# Altium footprint library trafo-siemens.PCBLIB: 39 footprints (part 2 of 3)
Each footprint in its own frame and in the unit in brackets; x right, y up, seen from the top. Pads: shape width x height; smd on the part's side, far side on the other; paste and mask are expansions set on the pad; w line width, h text height; cw(c..) or ccw(c..) is an arc to the next point about the centre after c.
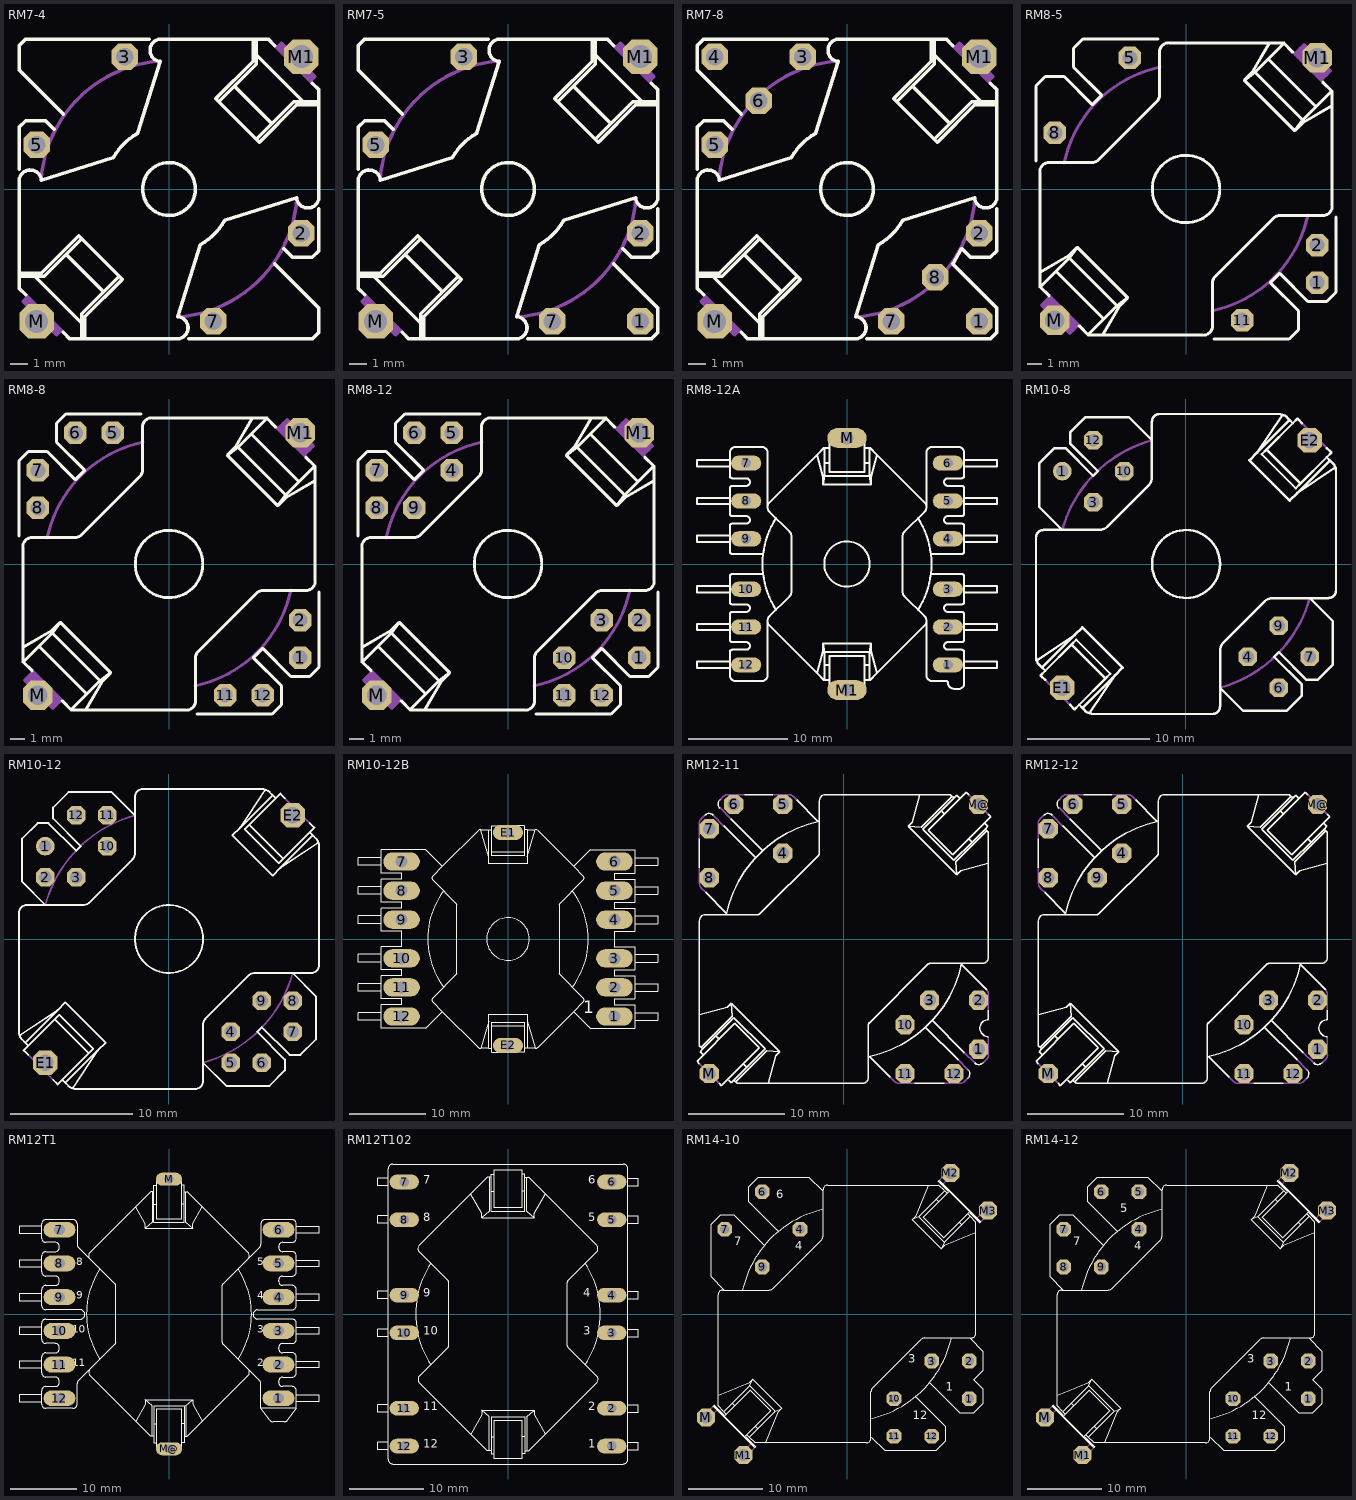
[diagram p1: the footprints below, top view; thin cyan lines are the x and y axes]

## RM7-4 [mil]
pads (6):
  oct 60x60 hole 40: 2(300,-100) 3(-100,300) 5(-300,100) 7(100,-300)
  oct 78x78 hole 52: M(-300,-300) M1(300,300)
Top Overlay:
  circle w8: c0,0 r60
  lines w8: -340,20 -340,-225 -325,-240 ; -340,20.24 cw(c-314.65,17.67) -289.28,20.05 -127.28,70.71 ; -340,45 -340,140 -325,155 -280,155 -260,135 ; -339.41,-197.99 -282.84,-197.99 -197.99,-113.14 ; -339.41,-190.92 -289.91,-190.92 -205.06,-106.07 -197.99,-113.14 ; -304.06,-197.99 -197.99,-304.06 ; -240,-325 -225,-340 20,-340 ; -240,170 -340,270 -340,325 -325,340 -45,340 ; -233.35,-148.49 -148.49,-233.35 ; -197.99,-339.41 -197.99,-282.84 -113.14,-197.99 ; -190.92,-339.41 -190.92,-289.91 -106.07,-205.06 -113.14,-197.99 ; -126.44,70.97 cw(c0,0) -70.97,126.44 ; -70.71,127.28 -20.05,289.31 cw(c-17.67,314.65) -20.24,340 ; -19.2,340 225,340 240,325 ; 20.24,-339.98 ccw(c17.67,-314.65) 20.05,-289.3 70.97,-126.44 ccw(c0,0) 126.44,-70.97 289.31,-20.05 ccw(c314.64,-17.67) 339.96,-20.24 ; 45,-340 325,-340 340,-325 340,-270 240,-170 ; 148.49,233.35 233.35,148.49 ; 190.92,339.41 190.92,289.91 106.07,205.06 113.14,197.99 ; 197.99,304.06 304.06,197.99 ; 197.99,339.41 197.99,282.84 113.14,197.99 ; 260,-135 280,-155 325,-155 340,-140 340,-45 ; 325,240 340,225 ; 339.41,190.92 289.91,190.92 205.06,106.07 197.99,113.14 ; 339.41,197.99 282.84,197.99 197.99,113.14 ; 340,-20 340,224.5 ; -197.99,-113.14 -113.14,-197.99 ; 113.14,197.99 197.99,113.14
Mechanical 16:
  lines w8: -324,-240.69 -240.69,-324 ; -320,-255 -255,-320 ; -320,-245 -330,-255 -255,-330 -245,-320 ; -290,20 cw(c0,0) -20,290 ; 20,-290 ccw(c0,0) 290,-20 ; 240,325 325,240 ; 245,320 255,330 330,255 320,245 ; 255,320 320,255

## RM7-5 [mil]
pads (7):
  oct 60x60 hole 40: 1(300,-300) 2(300,-100) 3(-100,300) 5(-300,100) 7(100,-300)
  oct 78x78 hole 52: M(-300,-300) M1(300,300)
Top Overlay:
  circle w8: c0,0 r60
  lines w8: -340,20 -340,-225 -325,-240 ; -340,20.24 cw(c-314.65,17.67) -289.28,20.05 -127.28,70.71 ; -340,45 -340,140 -325,155 -280,155 -260,135 ; -339.41,-197.99 -282.84,-197.99 -197.99,-113.14 ; -339.41,-190.92 -289.91,-190.92 -205.06,-106.07 -197.99,-113.14 ; -304.06,-197.99 -197.99,-304.06 ; -240,-325 -225,-340 20,-340 ; -240,170 -340,270 -340,325 -325,340 -45,340 ; -233.35,-148.49 -148.49,-233.35 ; -197.99,-339.41 -197.99,-282.84 -113.14,-197.99 ; -190.92,-339.41 -190.92,-289.91 -106.07,-205.06 -113.14,-197.99 ; -126.44,70.97 cw(c0,0) -70.97,126.44 ; -70.71,127.28 -20.05,289.31 cw(c-17.67,314.65) -20.24,340 ; -19.2,340 225,340 240,325 ; 20.24,-339.98 ccw(c17.67,-314.65) 20.05,-289.3 70.97,-126.44 ccw(c0,0) 126.44,-70.97 289.31,-20.05 ccw(c314.64,-17.67) 339.96,-20.24 ; 45,-340 325,-340 340,-325 340,-270 240,-170 ; 148.49,233.35 233.35,148.49 ; 190.92,339.41 190.92,289.91 106.07,205.06 113.14,197.99 ; 197.99,304.06 304.06,197.99 ; 197.99,339.41 197.99,282.84 113.14,197.99 ; 260,-135 280,-155 325,-155 340,-140 340,-45 ; 325,240 340,225 ; 339.41,190.92 289.91,190.92 205.06,106.07 197.99,113.14 ; 339.41,197.99 282.84,197.99 197.99,113.14 ; 340,-20 340,224.5 ; -197.99,-113.14 -113.14,-197.99 ; 113.14,197.99 197.99,113.14
Mechanical 16:
  lines w8: -324,-240.69 -240.69,-324 ; -320,-255 -255,-320 ; -320,-245 -330,-255 -255,-330 -245,-320 ; -290,20 cw(c0,0) -20,290 ; 20,-290 ccw(c0,0) 290,-20 ; 240,325 325,240 ; 245,320 255,330 330,255 320,245 ; 255,320 320,255

## RM7-8 [mil]
pads (10):
  oct 60x60 hole 40: 1(300,-300) 2(300,-100) 3(-100,300) 4(-300,300) 5(-300,100) 6(-200,200) 7(100,-300) 8(200,-200)
  oct 78x78 hole 52: M(-300,-300) M1(300,300)
Top Overlay:
  circle w8: c0,0 r60
  lines w8: -340,20 -340,-225 -325,-240 ; -340,20.24 cw(c-314.65,17.67) -289.28,20.05 -127.28,70.71 ; -340,45 -340,140 -325,155 -280,155 -260,135 ; -339.41,-197.99 -282.84,-197.99 -197.99,-113.14 ; -339.41,-190.92 -289.91,-190.92 -205.06,-106.07 -197.99,-113.14 ; -304.06,-197.99 -197.99,-304.06 ; -240,-325 -225,-340 20,-340 ; -240,170 -340,270 -340,325 -325,340 -45,340 ; -233.35,-148.49 -148.49,-233.35 ; -197.99,-339.41 -197.99,-282.84 -113.14,-197.99 ; -190.92,-339.41 -190.92,-289.91 -106.07,-205.06 -113.14,-197.99 ; -126.44,70.97 cw(c0,0) -70.97,126.44 ; -70.71,127.28 -20.05,289.31 cw(c-17.67,314.65) -20.24,340 ; -19.2,340 225,340 240,325 ; 20.24,-339.98 ccw(c17.67,-314.65) 20.05,-289.3 70.97,-126.44 ccw(c0,0) 126.44,-70.97 289.31,-20.05 ccw(c314.64,-17.67) 339.96,-20.24 ; 45,-340 325,-340 340,-325 340,-270 240,-170 260,-135 280,-155 325,-155 340,-140 340,-45 ; 148.49,233.35 233.35,148.49 ; 190.92,339.41 190.92,289.91 106.07,205.06 113.14,197.99 ; 197.99,304.06 304.06,197.99 ; 197.99,339.41 197.99,282.84 113.14,197.99 ; 325,240 340,225 ; 339.41,190.92 289.91,190.92 205.06,106.07 197.99,113.14 ; 339.41,197.99 282.84,197.99 197.99,113.14 ; 340,-20 340,224.5 ; -197.99,-113.14 -113.14,-197.99 ; 113.14,197.99 197.99,113.14
Mechanical 16:
  lines w8: -324,-240.69 -240.69,-324 ; -320,-255 -255,-320 ; -320,-245 -330,-255 -255,-330 -245,-320 ; -290,20 cw(c0,0) -20,290 ; 20,-290 ccw(c0,0) 290,-20 ; 240,325 325,240 ; 245,320 255,330 330,255 320,245 ; 255,320 320,255

## RM8-5 [mil]
pads (7):
  oct 60x60 hole 40: 1(350,-250) 2(350,-150) 5(-150,350) 8(-350,150) 11(150,-350)
  oct 78x78 hole 52: M(-350,-350) M1(350,350)
Top Overlay:
  circle w8: c0,0 r90
  lines w8: -400,75 -400,275 -375,300 -325,300 -250,225 -225,250 -300,325 -300,375 -275,400 -75,400 ; -365,-285 -390,-260 ; -346.48,-219.2 -219.2,-346.48 ; -285,-365 -260,-390 ; -261.63,-388.91 -219.2,-346.48 ; -260.54,-390 -260,-390 ; -233.09,78.02 cw(c-250.75,95.7) -250.77,70.71 -365,70.71 ccw(c-365,45.71) -390,45.71 -390,-222.64 ; -233.09,78.03 -78.03,233.09 ccw(c-95.71,250.77) -70.71,250.77 -70.71,365 cw(c-45.71,365) -45.71,390 222.64,390 ; 75,-400 275,-400 300,-375 300,-325 225,-250 250,-225 325,-300 375,-300 400,-275 400,-75 ; 219.2,346.48 346.48,219.2 ; 285,365 260,390 ; 365,285 390,260 ; 388.91,261.63 346.48,219.2 ; 390,260.54 390,260 ; -390,-260 -390,-260.54 -388.91,-261.63 -311.13,-183.85 ; -390,-260 -390,-222.64 ; -390,-222.64 -311.13,-176.78 -289.91,-155.56 ; -311.13,-183.85 -289.91,-155.56 ; -311.13,-183.85 -183.85,-311.13 ; -289.91,-155.56 -155.56,-289.91 ; -260,-390 -222.64,-390 ; -222.64,-390 45.71,-390 ccw(c45.71,-365) 70.71,-365 70.71,-250.77 cw(c95.71,-250.77) 78.03,-233.09 233.09,-78.03 cw(c250.75,-95.72) 250.77,-70.72 365,-70.71 ccw(c365,-45.71) 390,-45.71 390,222.64 ; -222.64,-390 -176.78,-311.13 -155.56,-289.91 ; -219.2,-346.48 -183.85,-311.13 ; -183.85,-311.13 -155.56,-289.91 ; 155.56,289.91 289.91,155.56 ; 155.56,289.91 183.85,311.13 ; 155.56,289.91 176.78,311.13 222.64,390 ; 183.85,311.13 311.13,183.85 ; 183.85,311.13 261.63,388.91 260.54,390 260,390 ; 222.64,390 260,390 ; 289.91,155.56 311.13,183.85 ; 289.91,155.56 311.13,176.78 390,222.64 ; 311.13,183.85 346.48,219.2 ; 390,222.64 390,260
Mechanical 16:
  lines w8: -365,-285 -285,-365 ; -363,-288 -289,-362 ; -325,70 cw(c0,0) -70,325 ; -310,-380 -380,-310 -375,-305 -305,-375 -300,-370 -370,-300 -365,-295 -295,-365 ; 70,-325 ccw(c0,0) 325,-70 ; 285,365 290,360 ; 295,360 360,295 ; 300,365 365,300 ; 305,370 370,305 ; 310,375 375,310 ; 315,380 380,315 ; 365,285 360,290 ; -380,-305 -385,-310 -310,-385 ; -380,-305 -375,-300 ; -380,-305 -305,-380 ; -375,-300 -370,-295 ; -375,-300 -300,-375 ; -370,-295 -365,-290 -290,-365 ; -370,-295 -295,-370 ; -310,-385 -305,-380 ; -310,-385 -290,-365 ; -305,-380 -300,-375 ; -300,-375 -295,-370 ; -295,-370 -290,-365 ; 290,360 360,290 ; 290,360 295,365 ; 295,365 300,370 ; 295,365 365,295 ; 300,370 305,375 ; 300,370 370,300 ; 305,375 310,380 ; 305,375 375,305 ; 310,380 315,385 385,315 380,310 ; 310,380 380,310 ; 360,290 365,295 ; 365,295 370,300 ; 370,300 375,305 ; 375,305 380,310

## RM8-8 [mil]
pads (10):
  oct 60x60 hole 40: 1(350,-250) 2(350,-150) 5(-150,350) 6(-250,350) 7(-350,250) 8(-350,150) 11(150,-350) 12(250,-350)
  oct 78x78 hole 52: M(-350,-350) M1(350,350)
Top Overlay:
  circle w8: c0,0 r90
  lines w8: -400,75 -400,275 -375,300 -325,300 -250,225 -225,250 -300,325 -300,375 -275,400 -75,400 ; -365,-285 -390,-260 ; -346.48,-219.2 -219.2,-346.48 ; -285,-365 -260,-390 ; -261.63,-388.91 -219.2,-346.48 ; -260.54,-390 -260,-390 ; -233.09,78.02 cw(c-250.75,95.7) -250.77,70.71 -365,70.71 ccw(c-365,45.71) -390,45.71 -390,-222.64 ; -233.09,78.03 -78.03,233.09 ccw(c-95.71,250.77) -70.71,250.77 -70.71,365 cw(c-45.71,365) -45.71,390 222.64,390 ; 75,-400 275,-400 300,-375 300,-325 225,-250 250,-225 325,-300 375,-300 400,-275 400,-75 ; 219.2,346.48 346.48,219.2 ; 285,365 260,390 ; 365,285 390,260 ; 388.91,261.63 346.48,219.2 ; 390,260.54 390,260 ; -390,-260 -390,-260.54 -388.91,-261.63 -311.13,-183.85 ; -390,-260 -390,-222.64 ; -390,-222.64 -311.13,-176.78 -289.91,-155.56 ; -311.13,-183.85 -289.91,-155.56 ; -311.13,-183.85 -183.85,-311.13 ; -289.91,-155.56 -155.56,-289.91 ; -260,-390 -222.64,-390 ; -222.64,-390 45.71,-390 ccw(c45.71,-365) 70.71,-365 70.71,-250.77 cw(c95.71,-250.77) 78.03,-233.09 233.09,-78.03 cw(c250.75,-95.72) 250.77,-70.72 365,-70.71 ccw(c365,-45.71) 390,-45.71 390,222.64 ; -222.64,-390 -176.78,-311.13 -155.56,-289.91 ; -219.2,-346.48 -183.85,-311.13 ; -183.85,-311.13 -155.56,-289.91 ; 155.56,289.91 289.91,155.56 ; 155.56,289.91 183.85,311.13 ; 155.56,289.91 176.78,311.13 222.64,390 ; 183.85,311.13 311.13,183.85 ; 183.85,311.13 261.63,388.91 260.54,390 260,390 ; 222.64,390 260,390 ; 289.91,155.56 311.13,183.85 ; 289.91,155.56 311.13,176.78 390,222.64 ; 311.13,183.85 346.48,219.2 ; 390,222.64 390,260
Mechanical 16:
  lines w8: -365,-285 -285,-365 ; -363,-288 -289,-362 ; -325,70 cw(c0,0) -70,325 ; -310,-380 -380,-310 -375,-305 -305,-375 -300,-370 -370,-300 -365,-295 -295,-365 ; 70,-325 ccw(c0,0) 325,-70 ; 285,365 290,360 ; 295,360 360,295 ; 300,365 365,300 ; 305,370 370,305 ; 310,375 375,310 ; 315,380 380,315 ; 365,285 360,290 ; -380,-305 -385,-310 -310,-385 ; -380,-305 -375,-300 ; -380,-305 -305,-380 ; -375,-300 -370,-295 ; -375,-300 -300,-375 ; -370,-295 -365,-290 -290,-365 ; -370,-295 -295,-370 ; -310,-385 -305,-380 ; -310,-385 -290,-365 ; -305,-380 -300,-375 ; -300,-375 -295,-370 ; -295,-370 -290,-365 ; 290,360 360,290 ; 290,360 295,365 ; 295,365 300,370 ; 295,365 365,295 ; 300,370 305,375 ; 300,370 370,300 ; 305,375 310,380 ; 305,375 375,305 ; 310,380 315,385 385,315 380,310 ; 310,380 380,310 ; 360,290 365,295 ; 365,295 370,300 ; 370,300 375,305 ; 375,305 380,310

## RM8-12 [mil]
pads (14):
  oct 60x60 hole 40: 1(350,-250) 2(350,-150) 3(250,-150) 4(-150,250) 5(-150,350) 6(-250,350) 7(-350,250) 8(-350,150) 9(-250,150) 10(150,-250) 11(150,-350) 12(250,-350)
  oct 78x78 hole 52: M(-350,-350) M1(350,350)
Top Overlay:
  circle w8: c0,0 r90
  lines w8: -400,75 -400,275 -375,300 -325,300 -250,225 -225,250 -300,325 -300,375 -275,400 -75,400 ; -365,-285 -390,-260 ; -346.48,-219.2 -219.2,-346.48 ; -285,-365 -260,-390 ; -261.63,-388.91 -219.2,-346.48 ; -260.54,-390 -260,-390 ; -233.09,78.02 cw(c-250.75,95.7) -250.77,70.71 -365,70.71 ccw(c-365,45.71) -390,45.71 -390,-222.64 ; -233.09,78.03 -78.03,233.09 ccw(c-95.71,250.77) -70.71,250.77 -70.71,365 cw(c-45.71,365) -45.71,390 222.64,390 ; 75,-400 275,-400 300,-375 300,-325 225,-250 250,-225 325,-300 375,-300 400,-275 400,-75 ; 219.2,346.48 346.48,219.2 ; 285,365 260,390 ; 365,285 390,260 ; 388.91,261.63 346.48,219.2 ; 390,260.54 390,260 ; -390,-260 -390,-260.54 -388.91,-261.63 -311.13,-183.85 ; -390,-260 -390,-222.64 ; -390,-222.64 -311.13,-176.78 -289.91,-155.56 ; -311.13,-183.85 -289.91,-155.56 ; -311.13,-183.85 -183.85,-311.13 ; -289.91,-155.56 -155.56,-289.91 ; -260,-390 -222.64,-390 ; -222.64,-390 45.71,-390 ccw(c45.71,-365) 70.71,-365 70.71,-250.77 cw(c95.71,-250.77) 78.03,-233.09 233.09,-78.03 cw(c250.75,-95.72) 250.77,-70.72 365,-70.71 ccw(c365,-45.71) 390,-45.71 390,222.64 ; -222.64,-390 -176.78,-311.13 -155.56,-289.91 ; -219.2,-346.48 -183.85,-311.13 ; -183.85,-311.13 -155.56,-289.91 ; 155.56,289.91 289.91,155.56 ; 155.56,289.91 183.85,311.13 ; 155.56,289.91 176.78,311.13 222.64,390 ; 183.85,311.13 311.13,183.85 ; 183.85,311.13 261.63,388.91 260.54,390 260,390 ; 222.64,390 260,390 ; 289.91,155.56 311.13,183.85 ; 289.91,155.56 311.13,176.78 390,222.64 ; 311.13,183.85 346.48,219.2 ; 390,222.64 390,260
Mechanical 16:
  lines w8: -365,-285 -285,-365 ; -363,-288 -289,-362 ; -325,70 cw(c0,0) -70,325 ; -310,-380 -380,-310 -375,-305 -305,-375 -300,-370 -370,-300 -365,-295 -295,-365 ; 70,-325 ccw(c0,0) 325,-70 ; 285,365 290,360 ; 295,360 360,295 ; 300,365 365,300 ; 305,370 370,305 ; 310,375 375,310 ; 315,380 380,315 ; 365,285 360,290 ; -380,-305 -385,-310 -310,-385 ; -380,-305 -375,-300 ; -380,-305 -305,-380 ; -375,-300 -370,-295 ; -375,-300 -300,-375 ; -370,-295 -365,-290 -290,-365 ; -370,-295 -295,-370 ; -310,-385 -305,-380 ; -310,-385 -290,-365 ; -305,-380 -300,-375 ; -300,-375 -295,-370 ; -295,-370 -290,-365 ; 290,360 360,290 ; 290,360 295,365 ; 295,365 300,370 ; 295,365 365,295 ; 300,370 305,375 ; 300,370 370,300 ; 305,375 310,380 ; 305,375 375,305 ; 310,380 315,385 385,315 380,310 ; 310,380 380,310 ; 360,290 365,295 ; 365,295 370,300 ; 370,300 375,305 ; 375,305 380,310

## RM8-12A [mil]
pads (14):
  oval 120x60 hole 40: 1(400,-400) 2(400,-250) 3(400,-100) 4(400,100) 5(400,250) 6(400,400) 7(-400,400) 8(-400,250) 9(-400,100) 10(-400,-100) 11(-400,-250) 12(-400,-400)
  oval 156x78 hole 52: M(0,500) M1(0,-500)
Top Overlay:
  drawing of 194 lines, arcs and shapes, not listed
Mechanical 16:
  lines w8: -60,-500 60,-500 ; -60,500 60,500
  text "1" at 375,-425 h77.5
  text "6" at 375,375 h77.5
  text "12" at -450,-425 h77.5
  text "7" at -425,375 h77.5
  text "2" at 375,-275 h77.5
  text "3" at 375,-125 h77.5
  text "4" at 375,75 h77.5
  text "5" at 375,225 h77.5
  text "8" at -425,225 h77.5
  text "9" at -425,75 h77.5
  text "10" at -450,-125 h77.5
  text "11" at -450,-275 h77.5

## RM10-8 [mil]
pads (10):
  round 60 hole 40: 1(-400,300)
  oct 60x60 hole 40: 3(-300,200) 4(200,-300) 6(300,-400) 7(400,-300) 9(300,-200) 10(-200,300) 12(-300,400)
  oct 78x78 hole 52: E1(-400,-400) E2(400,400)
Top Overlay:
  circle w8: c0,0 r110
  lines w8: -480,-310 -360,-230 ; -475.67,-324.93 cw(c-447,-299.99) -485,-300 -485,85 cw(c-460,85) -460,110 -400,110 ; -475,-325 -465,-335 ; -455,-375 -470,-360 -455,-345 ; -375,-455 -360,-470 -345,-455 ; -325.31,-475.35 ccw(c-300,-447) -300,-485 85,-485 ccw(c85,-460) 110,-460 110,-400 ; -325,-475 -335,-465 ; -310,-480 -230,-360 ; -255,120 -120,255 ; -254.86,119.85 cw(c-280,147) -280,110 -400,110 ; -119.85,254.86 ccw(c-147,280) -110,280 -110,400 ; 119.85,-254.86 ccw(c147,-280) 110,-280 110,-400 ; 120,-255 255,-120 ; 254.86,-119.85 cw(c279.98,-147) 280,-110.01 400,-110 ; 310,480 230,360 ; 325,475 335,465 ; 325.31,475.35 ccw(c300.01,447) 300,485 -85,485 ccw(c-85,460) -110,460 -110,400 ; 375,455 360,470 345,455 ; 455,375 470,360 455,345 ; 475,325 465,335 ; 475.67,324.93 cw(c447,299.98) 485.01,300 485,-85 cw(c460,-85) 460,-110 400,-110 ; 480,310 360,230 ; -465,-335 -360,-230 ; -465,-335 -455,-345 ; -455,-345 -370,-260 ; -400,110 -475,185 -475,325 -425,375 -390,375 -300,285 -285,300 -375,390 -375,425 -325,475 -185,475 -110,400 ; -370,-260 -260,-370 ; -370,-260 -355,-245 -245,-355 -260,-370 ; -360,-230 -335,-205 -205,-335 -230,-360 ; -345,-455 -335,-465 ; -345,-455 -260,-370 ; -335,-465 -230,-360 ; 110,-400 185,-475 325,-475 375,-425 375,-390 285,-300 300,-285 390,-375 425,-375 475,-325 475,-185 400,-110 ; 230,360 335,465 ; 230,360 205,335 335,205 360,230 ; 260,370 370,260 ; 260,370 245,355 355,245 370,260 ; 260,370 345,455 ; 335,465 345,455 ; 360,230 465,335 ; 370,260 455,345 ; 455,345 465,335
Mechanical 16:
  lines w8: -455,-375 -375,-455 ; -400,110 cw(c0,-0.01) -111.85,399.48 ; 111.85,-399.48 ccw(c0,0.01) 400,-110 ; 375,455 455,375

## RM10-12 [mil]
pads (14):
  round 60 hole 40: 1(-400,300)
  oct 60x60 hole 40: 2(-400,200) 3(-300,200) 4(200,-300) 5(200,-400) 6(300,-400) 7(400,-300) 8(400,-200) 9(300,-200) 10(-200,300) 11(-200,400) 12(-300,400)
  oct 78x78 hole 52: E1(-400,-400) E2(400,400)
Top Overlay:
  circle w6: c0,0 r110
  lines w6: -480,-310 -360,-230 ; -475.67,-324.93 cw(c-447,-299.99) -485,-300 -485,85 cw(c-460,85) -460,110 -400,110 ; -475,-325 -465,-335 ; -455,-375 -470,-360 -455,-345 ; -375,-455 -360,-470 -345,-455 ; -325.31,-475.35 ccw(c-300,-447) -300,-485 85,-485 ccw(c85,-460) 110,-460 110,-400 ; -325,-475 -335,-465 ; -310,-480 -230,-360 ; -255,120 -120,255 ; -254.86,119.85 cw(c-280,147) -280,110 -400,110 ; -119.85,254.86 ccw(c-147,280) -110,280 -110,400 ; 119.85,-254.86 ccw(c147,-280) 110,-280 110,-400 ; 120,-255 255,-120 ; 254.86,-119.85 cw(c279.98,-147) 280,-110.01 400,-110 ; 310,480 230,360 ; 325,475 335,465 ; 325.31,475.35 ccw(c300.01,447) 300,485 -85,485 ccw(c-85,460) -110,460 -110,400 ; 375,455 360,470 345,455 ; 455,375 470,360 455,345 ; 475,325 465,335 ; 475.67,324.93 cw(c447,299.98) 485.01,300 485,-85 cw(c460,-85) 460,-110 400,-110 ; 480,310 360,230 ; -465,-335 -360,-230 ; -465,-335 -455,-345 ; -455,-345 -370,-260 ; -400,110 -475,185 -475,325 -425,375 -390,375 -300,285 -285,300 -375,390 -375,425 -325,475 -185,475 -110,400 ; -370,-260 -260,-370 ; -370,-260 -355,-245 -245,-355 -260,-370 ; -360,-230 -335,-205 -205,-335 -230,-360 ; -345,-455 -335,-465 ; -345,-455 -260,-370 ; -335,-465 -230,-360 ; 110,-400 185,-475 325,-475 375,-425 375,-390 285,-300 300,-285 390,-375 425,-375 475,-325 475,-185 400,-110 ; 230,360 335,465 ; 230,360 205,335 335,205 360,230 ; 260,370 370,260 ; 260,370 245,355 355,245 370,260 ; 260,370 345,455 ; 335,465 345,455 ; 360,230 465,335 ; 370,260 455,345 ; 455,345 465,335
Mechanical 16:
  lines w6: -455,-375 -375,-455 ; -400,110 cw(c0,-0.01) -111.85,399.48 ; 111.85,-399.48 ccw(c0,0.01) 400,-110 ; 375,455 455,375

## RM10-12B [mil]
pads (14):
  oval 189x94.5 hole 63: 1(550,-400) 2(550,-250) 3(550,-100) 4(550,100) 5(550,250) 6(550,400) 7(-550,400) 8(-550,250) 9(-550,100) 10(-550,-100) 11(-550,-250) 12(-550,-400)
  oval 156x78 hole 52: E1(0,550) E2(0,-550)
Top Overlay:
  drawing of 179 lines, arcs and shapes, not listed
  text "1" at 390,-405 h108.5
Mechanical 16:
  lines w6: -45,-585 45,-585 ; -45,585 45,585

## RM12-11 [mil]
pads (13):
  oct 78x78 hole 52: 1(550,-450) 2(550,-250) 3(350,-250) 4(-250,350) 5(-250,550) 6(-450,550) 7(-550,450) 8(-550,250) 10(250,-350) 11(250,-550) 12(450,-550) M(-550,-550) M@(550,550)
Top Overlay:
  lines w6: -590,-510 -600,-500 -445,-345 -345,-445 -500,-600 -510,-590 ; -590,-309 -477,-279 -460,-262 ; -590,290 -590,410 ; -583,-442 -456,-315 -460,-262 ; -576,-471 -587,-460 -576,-449 ; -568.51,505.51 cw(c-551,488) -534,506 ; -565,190 -481,106 ; -511,-408 -523,-396 ; -506.51,533.52 cw(c-488,551) -506,569 ; -491,462 -361,332 ; -480,100 cw(c0,0) -100,480 ; -471,-576 -460,-587 -449,-576 ; -462,491 -332,361 ; -442,-583 -315,-456 -262,-460 ; -409,-512 -397,-524 ; -405,590 -290,590 ; -343,103 -103,343 ccw(c-110,350) -100.1,350 ; -342.93,102.93 cw(c-350,110) -350,100 -565,100 ccw(c-565,75) -590,75 -590,-435 -576,-449 ; -309,-590 -279,-477 -262,-460 ; -193,568 -106,481 ; -100,350 -100,565 cw(c-75,565) -75,590 435,590 449,576 ; 100,-480 ccw(c0,0) 480,-100 ; 100,-350 100,-565 cw(c75,-565) 75,-590 -435,-590 -449,-576 ; 100.1,-350 cw(c110,-350) 103,-343 343,-103 ; 106,-481 190,-565 ; 290,-590 410,-590 ; 309,590 279,477 262,460 ; 332,-361 466,-494 ; 342.93,-102.93 cw(c350,-110) 350,-100 565,-100 ccw(c565,-75) 590,-75 590,435 576,449 ; 361,-332 492,-464 ; 409,512 397,524 ; 442,583 315,456 262,460 ; 471,576 460,587 397,524 ; 481,-106 583,-208 ; 506,-569 ccw(c488,-551) 506.51,-533.52 ; 510,590 500,600 345,445 445,345 600,500 590,510 ; 511,408 523,396 ; 534,-506 ccw(c550.99,-488) 568.5,-505.5 ; 576,471 587,460 576,449 ; 583,442 456,315 460,262 ; 590,-399 cw(c590,-364) 590,-329 590,-290 ; 590,309 477,279 460,262 ; -576,-449 -523,-396 ; -523,-396 -449,-322 -322,-449 -397,-524 ; -460,-262 -262,-460 ; -449,-576 -397,-524 ; 262,460 460,262 ; 397,524 322,449 449,322 523,396 ; 523,396 576,449
Mechanical 16:
  lines w6: -590.46,474 cw(c-565,473.99) -583,492 -569,506 ; -590,-510 -510,-590 ; -590,290 -590,226 ccw(c-565,226) -582.68,208.32 ; -590,410 -590,474 ; -583,208 -565,190 ; -534,505 -490,461 ; -506,535 -462,491 ; -506,569 -492,583 ; -491.68,582.68 cw(c-474,565) -474,590 -405,590 ; -290,590 -226,590 ; -225.99,589.74 cw(c-225,565) -208,583 -193,568 ; 190,-565 208,-583 ccw(c225,-565) 225.99,-589.74 ; 226,-590 290,-590 ; 410,-590 474,-590 ccw(c474,-565) 491.68,-582.68 ; 466,-494 506,-534 ; 492,-583 506,-569 ; 492,-464 534,-506 ; 510,590 590,510 ; 565,-190 583,-208 ; 569,-506 583,-492 ccw(c565,-473.99) 590.46,-474 ; 582.68,-208.32 cw(c565,-226) 590,-226 590,-290 ; 590,-474 590,-399
  text "1" at 465,-420 h77.5
  text "2" at 445,-295 h77.5
  text "3" at 335,-190 h77.5
  text "10" at 115,-435 h77.5
  text "11" at 240,-485 h77.5
  text "12" at 335,-515 h77.5
  text "4" at -190,325 h77.5
  text "5" at -200,470 h77.5
  text "6" at -410,465 h77.5
  text "7" at -510,360 h77.5
  text "8" at -490,225 h77.5

## RM12-12 [mil]
pads (14):
  oct 78x78 hole 52: 1(550,-450) 2(550,-250) 3(350,-250) 4(-250,350) 5(-250,550) 6(-450,550) 7(-550,450) 8(-550,250) 9(-350,250) 10(250,-350) 11(250,-550) 12(450,-550) M(-550,-550) M@(550,550)
Top Overlay:
  lines w6: -590,-510 -600,-500 -445,-345 -345,-445 -500,-600 -510,-590 ; -590,-309 -477,-279 -460,-262 ; -590,290 -590,410 ; -583,-442 -456,-315 -460,-262 ; -576,-471 -587,-460 -576,-449 ; -568.51,505.51 cw(c-551,488) -534,506 ; -565,190 -481,106 ; -511,-408 -523,-396 ; -506.51,533.52 cw(c-488,551) -506,569 ; -491,462 -361,332 ; -480,100 cw(c0,0) -100,480 ; -471,-576 -460,-587 -449,-576 ; -462,491 -332,361 ; -442,-583 -315,-456 -262,-460 ; -409,-512 -397,-524 ; -405,590 -290,590 ; -343,103 -103,343 ccw(c-110,350) -100.1,350 ; -342.93,102.93 cw(c-350,110) -350,100 -565,100 ccw(c-565,75) -590,75 -590,-435 -576,-449 ; -309,-590 -279,-477 -262,-460 ; -193,568 -106,481 ; -100,350 -100,565 cw(c-75,565) -75,590 435,590 449,576 ; 100,-480 ccw(c0,0) 480,-100 ; 100,-350 100,-565 cw(c75,-565) 75,-590 -435,-590 -449,-576 ; 100.1,-350 cw(c110,-350) 103,-343 343,-103 ; 106,-481 190,-565 ; 290,-590 410,-590 ; 309,590 279,477 262,460 ; 332,-361 466,-494 ; 342.93,-102.93 cw(c350,-110) 350,-100 565,-100 ccw(c565,-75) 590,-75 590,435 576,449 ; 361,-332 492,-464 ; 409,512 397,524 ; 442,583 315,456 262,460 ; 471,576 460,587 397,524 ; 481,-106 583,-208 ; 506,-569 ccw(c488,-551) 506.51,-533.52 ; 510,590 500,600 345,445 445,345 600,500 590,510 ; 511,408 523,396 ; 534,-506 ccw(c550.99,-488) 568.5,-505.5 ; 576,471 587,460 576,449 ; 583,442 456,315 460,262 ; 590,-399 cw(c590,-364) 590,-329 590,-290 ; 590,309 477,279 460,262 ; -576,-449 -523,-396 ; -523,-396 -449,-322 -322,-449 -397,-524 ; -460,-262 -262,-460 ; -449,-576 -397,-524 ; 262,460 460,262 ; 397,524 322,449 449,322 523,396 ; 523,396 576,449
Mechanical 16:
  lines w6: -590.46,474 cw(c-565,473.99) -583,492 -569,506 ; -590,-510 -510,-590 ; -590,290 -590,226 ccw(c-565,226) -582.68,208.32 ; -590,410 -590,474 ; -583,208 -565,190 ; -534,505 -490,461 ; -506,535 -462,491 ; -506,569 -492,583 ; -491.68,582.68 cw(c-474,565) -474,590 -405,590 ; -290,590 -226,590 ; -225.99,589.74 cw(c-225,565) -208,583 -193,568 ; 190,-565 208,-583 ccw(c225,-565) 225.99,-589.74 ; 226,-590 290,-590 ; 410,-590 474,-590 ccw(c474,-565) 491.68,-582.68 ; 466,-494 506,-534 ; 492,-583 506,-569 ; 492,-464 534,-506 ; 510,590 590,510 ; 565,-190 583,-208 ; 569,-506 583,-492 ccw(c565,-473.99) 590.46,-474 ; 582.68,-208.32 cw(c565,-226) 590,-226 590,-290 ; 590,-474 590,-399
  text "1" at 465,-420 h77.5
  text "2" at 445,-295 h77.5
  text "3" at 335,-190 h77.5
  text "10" at 115,-435 h77.5
  text "11" at 240,-485 h77.5
  text "12" at 335,-515 h77.5
  text "4" at -190,325 h77.5
  text "5" at -200,470 h77.5
  text "6" at -410,465 h77.5
  text "7" at -510,360 h77.5
  text "8" at -490,225 h77.5
  text "9" at -415,125 h77.5

## RM12T1 [mil]
pads (14):
  oval 189x94.5 hole 63: 1(650,-500) 2(650,-300) 3(650,-100) 4(650,100) 5(650,300) 6(650,500) 7(-650,500) 8(-650,300) 9(-650,100) 10(-650,-100) 11(-650,-300) 12(-650,-500)
  oval 156x78 hole 52: M(0,800) M@(0,-800)
Top Overlay:
  drawing of 226 lines, arcs and shapes, not listed
  text "2" at 525,-325 h77.5
  text "3" at 525,-125 h77.5
  text "4" at 525,75 h77.5
  text "5" at 525,275 h77.5
  text "8" at -550,275 h77.5
  text "9" at -550,75 h77.5
  text "10" at -575,-125 h77.5
  text "11" at -575,-325 h77.5
Mechanical 16:
  lines w6: -70,-800 70,-800 ; -70,800 70,800
  text "1" at 575,-525 h77.5
  text "6" at 575,475 h77.5
  text "7" at -600,475 h77.5
  text "12" at -650,-525 h77.5

## RM12T102 [mil]
pads (12):
  oval 156x78 hole 52: 1(550,-700) 2(550,-500) 3(550,-100) 4(550,100) 5(550,500) 6(550,700) 7(-550,700) 8(-550,500) 9(-550,100) 10(-550,-100) 11(-550,-500) 12(-550,-700)
Top Overlay:
  lines w6: -470.51,328.52 cw(c-452,346) -470,364 -109,725 -90,725 ; -470,-364 -109,-725 -90,-725 ; -470,329 -318,177 ; -469.5,-363.5 cw(c-452,-345.99) -470,-329 -318,-177 ccw(c-325,-169) -314.37,-169 ; -410,-268 cw(c0,0) -410,268 ; -318.41,176.53 cw(c-325,169.01) -315,169 -315,-169 ; -198,-636 -140,-535 -140,-510 ; -198,636 -140,535 -140,510 ; -100,-725 -100,-545 -140,-510 ; -100,725 -100,545 -140,510 ; 100,-725 100,-545 140,-510 ; 100,725 100,545 140,510 ; 198,-636 140,-535 140,-510 ; 198,636 140,535 140,510 ; 314.37,169 cw(c325,169) 318,177 471,330 ; 315,169 315,-169 ccw(c325,-169.01) 318.41,-176.53 ; 318,-177 471,-330 ; 410,-268 ccw(c0,0) 410,268 ; 469.51,363.51 cw(c452,346) 470,329 ; 470,364 109,725 90,725 ; 470.51,-328.52 cw(c452,-346) 470,-364 109,-725 90,-725 ; -635,-720 -635,-770 ccw(c-610,-770) -610,-795 610,-795 ccw(c610,-770) 635,-770 635,-720 ; -635,-720 -690,-720 -690,-680 -635,-680 ; -635,-720 -635,-680 ; -635,-680 -635,-520 ; -635,-520 -690,-520 -690,-480 -635,-480 ; -635,-520 -635,-480 ; -635,-480 -635,-120 ; -635,-120 -690,-120 -690,-80 -635,-80 ; -635,-120 -635,-80 ; -635,-80 -635,80 ; -635,80 -690,80 -690,120 -635,120 ; -635,80 -635,120 ; -635,120 -635,480 ; -635,480 -690,480 -690,520 -635,520 ; -635,480 -635,520 ; -635,520 -635,680 ; -635,680 -690,680 -690,720 -635,720 ; -635,680 -635,720 ; -635,720 -635,770 cw(c-610,770) -610,795 610,795 cw(c610,770) 635,770 635,720 ; -140,-510 140,-510 ; -140,510 140,510 ; -90,-725 -90,-650 ; -90,-725 -90,-740 -75,-740 ; -90,-650 -90,-545 90,-545 90,-650 ; -90,-650 -75,-650 ; -90,650 -90,545 90,545 90,650 ; -90,650 -90,740 -75,740 ; -90,650 -75,650 ; -75,-740 -75,-650 ; -75,-740 -75,-765 75,-765 75,-740 ; -75,-650 -75,-565 75,-565 75,-650 ; -75,650 -75,740 ; -75,650 -75,565 75,565 75,650 ; -75,740 -75,765 75,765 75,740 ; 75,-740 75,-650 ; 75,-740 90,-740 90,-725 ; 75,-650 90,-650 ; 75,650 75,740 ; 75,650 90,650 ; 75,740 90,740 90,725 ; 90,-725 90,-650 ; 90,650 90,725 ; 635,-720 690,-720 690,-680 635,-680 ; 635,-720 635,-680 ; 635,-680 635,-520 ; 635,-520 690,-520 690,-480 635,-480 ; 635,-520 635,-480 ; 635,-480 635,-120 ; 635,-120 690,-120 690,-80 635,-80 ; 635,-120 635,-80 ; 635,-80 635,80 ; 635,80 690,80 690,120 635,120 ; 635,80 635,120 ; 635,120 635,480 ; 635,480 690,480 690,520 635,520 ; 635,480 635,520 ; 635,520 635,680 ; 635,680 690,680 690,720 635,720 ; 635,680 635,720
  text "1" at 425,-725 h77.5
  text "2" at 425,-525 h77.5
  text "3" at 400,-125 h77.5
  text "4" at 400,75 h77.5
  text "5" at 425,475 h77.5
  text "6" at 425,675 h77.5
  text "7" at -450,675 h77.5
  text "8" at -450,475 h77.5
  text "9" at -450,75 h77.5
  text "10" at -450,-125 h77.5
  text "11" at -450,-525 h77.5
  text "12" at -450,-725 h77.5

## RM14-10 [mil]
pads (14):
  oct 78x78 hole 52: 1(650,-450) 2(650,-250) 3(450,-250) 4(-250,450) 6(-450,650) 7(-650,450) 9(-450,250) 10(250,-450) 11(250,-650) 12(450,-650)
  oct 94.5x94.5 hole 63: M(-750,-550) M1(-550,-750) M2(550,750) M3(750,550)
Top Overlay:
  lines w6: -705,-490 -490,-705 ; -655,-520 -645,-530 ; -655,130 -725,200 -725,475 -675,525 -600,525 -440,365 ; -610,-475 -600,-485 ; -555.61,127.28 cw(c0,0) -127.28,555.61 ; -530,-645 -520,-655 ; -485,-600 -475,-610 ; -365,440 -525,600 -525,675 -475,725 -200,725 -130,655 ; 127.28,-555.61 ccw(c-0.01,-0.01) 555.6,-127.28 ; 130,-655 200,-725 475,-725 525,-675 525,-600 365,-440 ; 440,-365 600,-525 675,-525 725,-475 725,-400 675,-350 725,-300 725,-200 655,-130 ; 475,610 485,600 ; 490,705 705,490 ; 520,655 530,645 ; 600,485 610,475 ; 645,530 655,520 ; -685,-433.86 -685,-488.8 -654.07,-519.72 -516.19,-381.84 ; -685,-433.86 -685,102.28 cw(c-660,102.28) -660,127.28 -413.41,127.28 ccw(c-413.41,152.28) -395.73,134.6 -134.6,395.73 ccw(c-152.28,413.41) -127.28,413.41 -127.28,660 cw(c-102.28,660) -102.28,685 433.86,685 ; -685,-433.86 -523.26,-367.7 -502.05,-346.48 ; -516.19,-381.84 -381.84,-516.19 ; -516.19,-381.84 -502.05,-346.48 ; -502.05,-346.48 -346.48,-502.05 ; -433.86,-685 102.28,-685 ccw(c102.28,-660) 127.28,-660 127.28,-413.41 cw(c152.28,-413.41) 134.6,-395.73 395.73,-134.6 cw(c413.41,-152.28) 413.41,-127.28 660,-127.28 ccw(c660,-102.28) 685,-102.28 685,433.86 ; -433.86,-685 -488.8,-685 -519.72,-654.07 -381.84,-516.19 ; -433.86,-685 -367.7,-523.26 -346.48,-502.05 ; -381.84,-516.19 -346.48,-502.05 ; 346.48,502.05 502.05,346.48 ; 346.48,502.05 381.84,516.19 ; 346.48,502.05 367.7,523.26 433.86,685 ; 381.84,516.19 519.72,654.07 488.8,685 433.86,685 ; 381.84,516.19 516.19,381.84 ; 502.05,346.48 516.19,381.84 ; 502.05,346.48 523.26,367.7 685,433.86 ; 516.19,381.84 654.07,519.72 685,488.8 685,433.86 ; -710,-490 -705,-485 -650,-540 -515,-405 -405,-515 -540,-650 -485,-705 -490,-710 -710,-490 ; 405,515 540,650 485,705 490,710 710,490 705,485 650,540 515,405 405,515
  text "1" at 525,-425 h77.5
  text "3" at 325,-275 h77.5
  text "4" at -275,325 h77.5
  text "7" at -600,350 h77.5
  text "12" at 350,-575 h77.5
  text "6" at -375,600 h77.5
Mechanical 16:
  lines w6: -710,-490 -755,-535 -735,-555 -690,-510 ; -510,-690 -555,-735 -535,-755 -490,-710 ; 490,710 535,755 555,735 510,690 ; 690,510 735,555 755,535 710,490

## RM14-12 [mil]
pads (16):
  oct 78x78 hole 52: 1(650,-450) 2(650,-250) 3(450,-250) 4(-250,450) 5(-250,650) 6(-450,650) 7(-650,450) 8(-650,250) 9(-450,250) 10(250,-450) 11(250,-650) 12(450,-650)
  oct 94.5x94.5 hole 63: M(-750,-550) M1(-550,-750) M2(550,750) M3(750,550)
Top Overlay:
  lines w6: -705,-490 -490,-705 ; -655,-520 -645,-530 ; -655,130 -725,200 -725,475 -675,525 -600,525 -440,365 ; -610,-475 -600,-485 ; -555.61,127.28 cw(c0,0) -127.28,555.61 ; -530,-645 -520,-655 ; -485,-600 -475,-610 ; -365,440 -525,600 -525,675 -475,725 -200,725 -130,655 ; 127.28,-555.61 ccw(c-0.01,-0.01) 555.6,-127.28 ; 130,-655 200,-725 475,-725 525,-675 525,-600 365,-440 ; 440,-365 600,-525 675,-525 725,-475 725,-400 675,-350 725,-300 725,-200 655,-130 ; 475,610 485,600 ; 490,705 705,490 ; 520,655 530,645 ; 600,485 610,475 ; 645,530 655,520 ; -685,-433.86 -685,-488.8 -654.07,-519.72 -516.19,-381.84 ; -685,-433.86 -685,102.28 cw(c-660,102.28) -660,127.28 -413.41,127.28 ccw(c-413.41,152.28) -395.73,134.6 -134.6,395.73 ccw(c-152.28,413.41) -127.28,413.41 -127.28,660 cw(c-102.28,660) -102.28,685 433.86,685 ; -685,-433.86 -523.26,-367.7 -502.05,-346.48 ; -516.19,-381.84 -381.84,-516.19 ; -516.19,-381.84 -502.05,-346.48 ; -502.05,-346.48 -346.48,-502.05 ; -433.86,-685 102.28,-685 ccw(c102.28,-660) 127.28,-660 127.28,-413.41 cw(c152.28,-413.41) 134.6,-395.73 395.73,-134.6 cw(c413.41,-152.28) 413.41,-127.28 660,-127.28 ccw(c660,-102.28) 685,-102.28 685,433.86 ; -433.86,-685 -488.8,-685 -519.72,-654.07 -381.84,-516.19 ; -433.86,-685 -367.7,-523.26 -346.48,-502.05 ; -381.84,-516.19 -346.48,-502.05 ; 346.48,502.05 502.05,346.48 ; 346.48,502.05 381.84,516.19 ; 346.48,502.05 367.7,523.26 433.86,685 ; 381.84,516.19 519.72,654.07 488.8,685 433.86,685 ; 381.84,516.19 516.19,381.84 ; 502.05,346.48 516.19,381.84 ; 502.05,346.48 523.26,367.7 685,433.86 ; 516.19,381.84 654.07,519.72 685,488.8 685,433.86 ; -710,-490 -705,-485 -650,-540 -515,-405 -405,-515 -540,-650 -485,-705 -490,-710 -710,-490 ; 405,515 540,650 485,705 490,710 710,490 705,485 650,540 515,405 405,515
  text "1" at 525,-425 h77.5
  text "3" at 325,-275 h77.5
  text "4" at -275,325 h77.5
  text "5" at -350,525 h77.5
  text "7" at -600,350 h77.5
  text "12" at 350,-575 h77.5
Mechanical 16:
  lines w6: -710,-490 -755,-535 -735,-555 -690,-510 ; -510,-690 -555,-735 -535,-755 -490,-710 ; 490,710 535,755 555,735 510,690 ; 690,510 735,555 755,535 710,490